# EAGLE library part WIOTERMINAL40PIN (library FaBo-PIN)
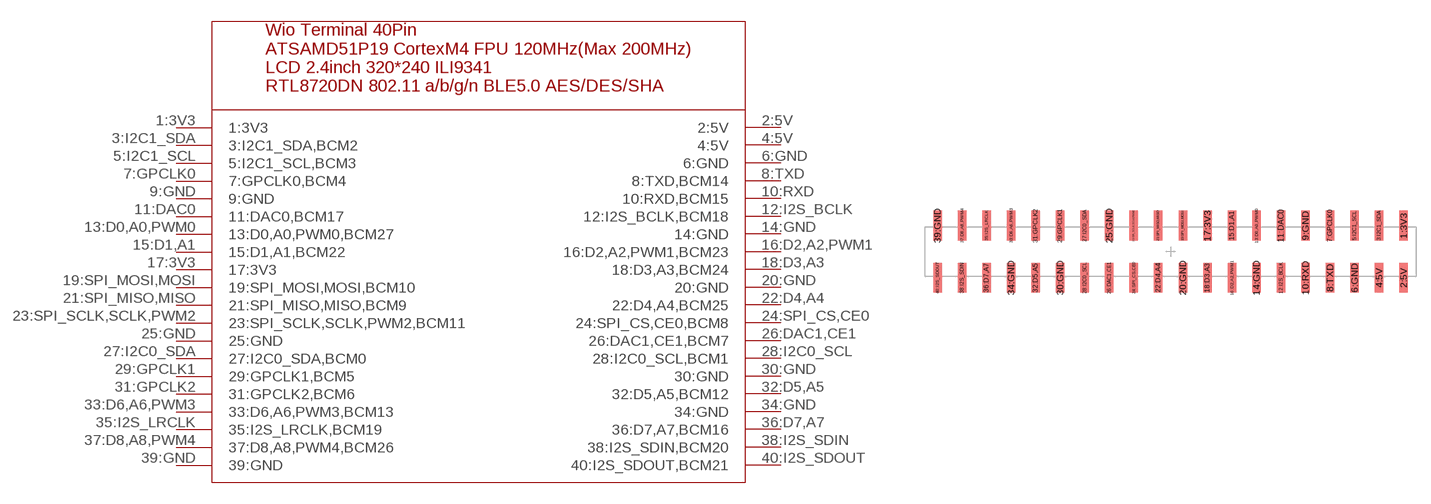
[diagram p31: symbol with the pads of 2213SM-40G; footprint 2213SM-40G]

Designator prefix -

## WIOTERMINAL40PIN  [2213SM-40G]
1:3V3  1:3V3
2:5V  2:5V
3:I2C1_SDA  3:I2C1_SDA,BCM2
4:5V  4:5V
5:I2C1_SCL  5:I2C1_SCL,BCM3
6:GND  6:GND
7:GPCLK0  7:GPCLK0,BCM4
8:TXD  8:TXD,BCM14
9:GND  9:GND
10:RXD  10:RXD,BCM15
11:DAC0  11:DAC0,BCM17
12:I2S_BCLK  12:I2S_BCLK,BCM18
13:D0,A0,PWM0  13:D0,A0,PWM0,BCM27
14:GND  14:GND
15:D1,A1  15:D1,A1,BCM22
16:D2,A2,PWM1  16:D2,A2,PWM1,BCM23
17:3V3  17:3V3
18:D3,A3  18:D3,A3,BCM24
19:SPI_MOSI,MOSI  19:SPI_MOSI,MOSI,BCM10
20:GND  20:GND
21:SPI_MISO,MISO  21:SPI_MISO,MISO,BCM9
22:D4,A4  22:D4,A4,BCM25
23:SPI_SCLK,SCLK,PWM2  23:SPI_SCLK,SCLK,PWM2,BCM11
24:SPI_CS,CE0  24:SPI_CS,CE0,BCM8
25:GND  25:GND
26:DAC1,CE1  26:DAC1,CE1,BCM7
27:I2C0_SDA  27:I2C0_SDA,BCM0
28:I2C0_SCL  28:I2C0_SCL,BCM1
29:GPCLK1  29:GPCLK1,BCM5
30:GND  30:GND
31:GPCLK2  31:GPCLK2,BCM6
32:D5,A5  32:D5,A5,BCM12
33:D6,A6,PWM3  33:D6,A6,PWM3,BCM13
34:GND  34:GND
35:I2S_LRCLK  35:I2S_LRCLK,BCM19
36:D7,A7  36:D7,A7,BCM16
37:D8,A8,PWM4  37:D8,A8,PWM4,BCM26
38:I2S_SDIN  38:I2S_SDIN,BCM20
39:GND  39:GND
40:I2S_SDOUT  40:I2S_SDOUT,BCM21

## Footprint 2213SM-40G (pad centres in mm)
smd 1 x 3.1: 1:3V3 24.13,2.7; 2:5V 24.13,-2.7; 3:I2C1_SDA 21.59,2.7; 4:5V 21.59,-2.7; 5:I2C1_SCL 19.05,2.7; 6:GND 19.05,-2.7; 7:GPCLK0 16.51,2.7; 8:TXD 16.51,-2.7; 9:GND 13.97,2.7; 10:RXD 13.97,-2.7; 11:DAC0 11.43,2.7; 12:I2S_BCLK 11.43,-2.7; 13:D0,A0,PWM0 8.89,2.7; 14:GND 8.89,-2.7; 15:D1,A1 6.35,2.7; 16:D2,A2,PWM1 6.35,-2.7; 17:3V3 3.81,2.7; 18:D3,A3 3.81,-2.7; 19:SPI_MOSI,MOSI 1.27,2.7; 20:GND 1.27,-2.7; 21:SPI_MISO,MISO -1.27,2.7; 22:D4,A4 -1.27,-2.7; 23:SPI_SCLK,SCLK,PWM2 -3.81,2.7; 24:SPI_CS,CE0 -3.81,-2.7; 25:GND -6.35,2.7; 26:DAC1,CE1 -6.35,-2.7; 27:I2C0_SDA -8.89,2.7; 28:I2C0_SCL -8.89,-2.7; 29:GPCLK1 -11.43,2.7; 30:GND -11.43,-2.7; 31:GPCLK2 -13.97,2.7; 32:D5,A5 -13.97,-2.7; 33:D6,A6,PWM3 -16.51,2.7; 34:GND -16.51,-2.7; 35:I2S_LRCLK -19.05,2.7; 36:D7,A7 -19.05,-2.7; 37:D8,A8,PWM4 -21.59,2.7; 38:I2S_SDIN -21.59,-2.7; 39:GND -24.13,2.7; 40:I2S_SDOUT -24.13,-2.7